# Altium schematic symbol library Passive.SchLib: 7 symbols
Pins are listed as number, name and electrical type; pins without a type are passive.

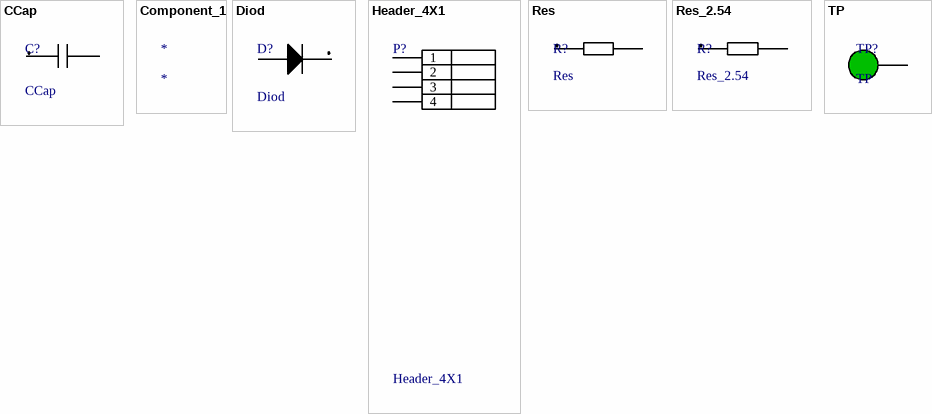
[diagram p0: symbols CCap to TP]

## CCap
designator C?
Ceramic capacitor; Value: *; Type: *
footprint 1005[0402]-Xs0.45Ys0.6A0.46RR_CAP (Chip; Body 1.1 x 0.5 mm (LxW typ))
footprint 1005[0402]-Xs0.7Ys0.7A0.46RR_CAP (Chip; Body 1.1 x 0.5 mm (LxW typ))
footprint 1608[0603]-Xs1.0Ys1.1A0.5RR_CAP (Chip; Body 1.6 x 0.8 mm (LxW typ))
footprint 1608[0603]-Xs1.0Ys1.1A0.76RR_CAP (Chip; Body 1.6 x 0.8 mm (LxW typ))
footprint 2012[0805]-Xs1.5Ys1.4A0.8RR_CAP (Chip; Body 2.0 x 1.3 mm (LxW typ))
footprint 2012[0805]-Xs1.5Ys1.4A0.8R_CAP (Chip; Body 2.0 x 1.3 mm (LxW typ))
footprint 2012[0805]-Xs1.5Ys1.4A1.0RR_CAP (Chip; Body 2.0 x 1.3 mm (LxW typ))
footprint 2012[0805]-Xs1.5Ys1.4A1.0R_CAP (Chip; Body 2.0 x 1.3 mm (LxW typ))
signal-integrity model Capacitor
pins: 1, 2

## Component_1
designator *

## Diod
designator D?
Diode; RefDef: *; Type: *
signal-integrity model Diode
footprint SOD110 (Molded Diode, 2-Leads, Body 2,1x1,4mm, IPC Medium Density)
pins: 1 A(+), 2 K (-)

## Header_4X1
designator P?
Header, 4-Pin, Single row; RefDef: *; Type: *
footprint HDR1X4 2mm (Connector; Header; 4x1 Position)
signal-integrity model Connector
pins: 1, 2, 3, 4

## Res
designator R?
Resistor; Value: *
footprint 1005[0402]-Xs0.45Ys0.6A0.46RR_RES (Chip; Body 1.1 x 0.5 mm (LxW typ))
footprint 1005[0402]-Xs0.7Ys0.7A0.46RR_RES (Chip; Body 1.1 x 0.5 mm (LxW typ))
footprint 1608[0603]-Xs1.0Ys1.1A0.5RR_RES (Chip; Body 1.6 x 0.8 mm (LxW typ))
footprint 1608[0603]-Xs1.0Ys1.1A0.76RR_RES (Chip; Body 1.6 x 0.8 mm (LxW typ))
footprint 2012[0805]-Xs1.5Ys1.4A0.8RR_RES (Chip; Body 2.0 x 1.3 mm (LxW typ))
footprint 2012[0805]-Xs1.5Ys1.4A0.8R_RES (Chip; Body 2.0 x 1.3 mm (LxW typ))
footprint 2012[0805]-Xs1.5Ys1.4A1.0RR_RES (Chip; Body 2.0 x 1.3 mm (LxW typ))
footprint 2012[0805]-Xs1.5Ys1.4A1.0R_RES (Chip; Body 2.0 x 1.3 mm (LxW typ))
signal-integrity model Resisitor
footprint 6332[2512]-XS4.0YS1.5A4.2R_RES (Chip Resistor, Body 6.3x3.2mm, IPC High Density)
pins: 1, 2

## Res_2.54
designator R?
Resistor; Value: *
footprint 1005[0402]-Xs0.45Ys0.6A0.46RR_RES (Chip; Body 1.1 x 0.5 mm (LxW typ))
footprint 1005[0402]-Xs0.7Ys0.7A0.46RR_RES (Chip; Body 1.1 x 0.5 mm (LxW typ))
footprint 1608[0603]-Xs1.0Ys1.1A0.5RR_RES (Chip; Body 1.6 x 0.8 mm (LxW typ))
footprint 1608[0603]-Xs1.0Ys1.1A0.76RR_RES (Chip; Body 1.6 x 0.8 mm (LxW typ))
footprint 2012[0805]-Xs1.5Ys1.4A0.8RR_RES (Chip; Body 2.0 x 1.3 mm (LxW typ))
footprint 2012[0805]-Xs1.5Ys1.4A0.8R_RES (Chip; Body 2.0 x 1.3 mm (LxW typ))
footprint 2012[0805]-Xs1.5Ys1.4A1.0RR_RES (Chip; Body 2.0 x 1.3 mm (LxW typ))
footprint 2012[0805]-Xs1.5Ys1.4A1.0R_RES (Chip; Body 2.0 x 1.3 mm (LxW typ))
signal-integrity model Resisitor
footprint 6332[2512]-XS4.0YS1.5A4.2R_RES (Chip Resistor, Body 6.3x3.2mm, IPC High Density)
pins: 1, 2

## TP
designator TP?
Test point
footprint TP (Test point)
footprint TPMulti (Test point)
pins: TP